# Altium schematic symbol library Passives.SchLib: 80 symbols
Pins are listed as number, name and electrical type; pins without a type are passive.

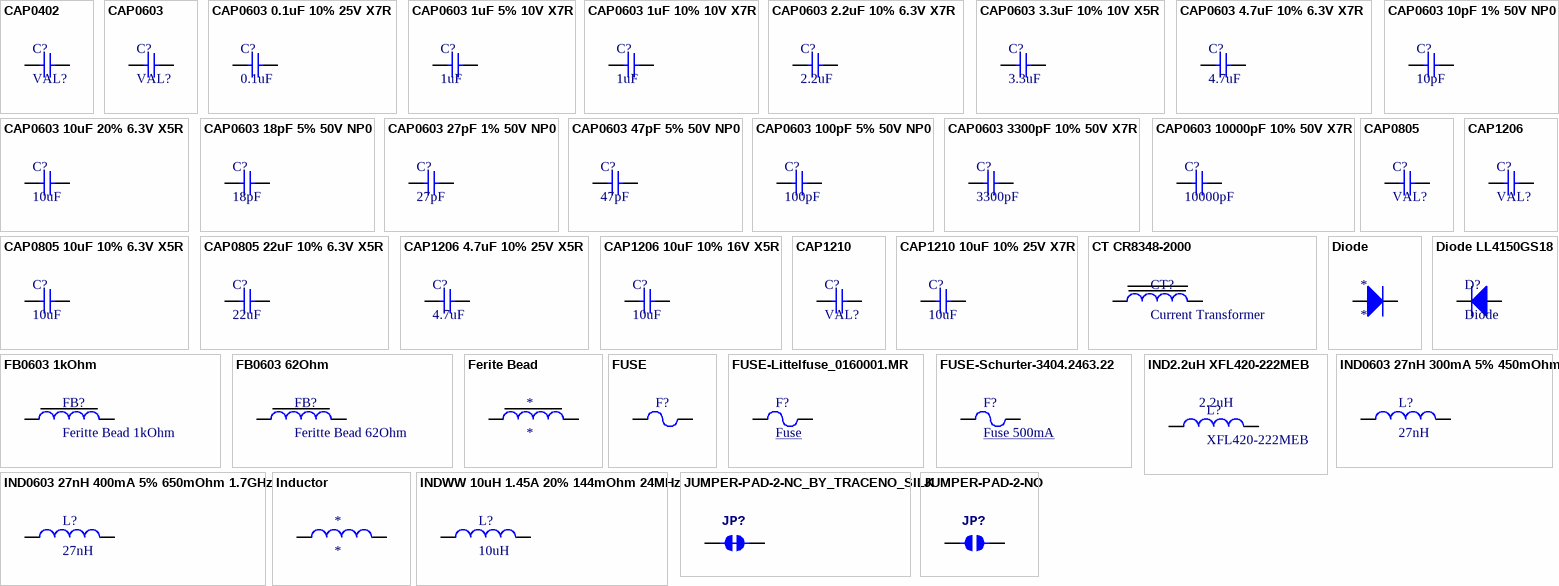
[diagram p0: symbols CAP0402 to JUMPER-PAD-2-NO]

## CAP0402
designator C?, comment VAL?
SMT 0402 Ceramic Capacitor; TempCoeff: X7R, C0G, NP0?; Tolerance: TOL?; Voltage: VOL?; Value: VAL?
footprint CAPC1005X06L - CAP0402 0.8MM TALL (Chip Capacitor, 2-Leads, Body 1.00x0.50mm, IPC High Density)
pins: 1, 2

## CAP0603
designator C?, comment VAL?
SMT 0603 Ceramic Capacitor; TempCoeff: X7R, C0G, NP0?; Tolerance: TOL?; Voltage: VOL?; Value: VAL?
footprint CAPC1608X09L - CAP603 (Chip Capacitor, 2-Leads, Body 1.60x0.80mm, IPC High Density)
pins: 1, 2

## CAP0603 0.1uF 10% 25V X7R
designator C?, comment 0.1uF
SMT 0603 Ceramic Capacitor; TempCoeff: X7R; Tolerance: 10%; Voltage: 25V; Value: 0.1uF; Supplier 1: Digi-Key; Supplier 2: Digi-Key; Supplier Part Number 1: 311-1341-1-ND; Supplier Part Number 2: 490-1524-1-ND
footprint CAPC1608X09L - CAP0603 (Chip Capacitor, 2-Leads, Body 1.60x0.80mm, IPC High Density)
pins: 1, 2

## CAP0603 1uF 5% 10V X7R
designator C?, comment 1uF
SMT 0603 Ceramic Capacitor; TempCoeff: X7R; Tolerance: 5%; Voltage: 10V; Value: 1uF; Supplier 1: Digi-Key; Supplier 2: Mouser; Supplier 3: Digi-Key; Supplier Part Number 1: 478-10074-1-ND; Supplier Part Number 2: 581-0603ZC105JAT2A; Supplier Part Number 3: 311-3484-1-ND
footprint CAPC1608X09L - CAP0603 (Chip Capacitor, 2-Leads, Body 1.60x0.80mm, IPC High Density)
pins: 1, 2

## CAP0603 1uF 10% 10V X7R
designator C?, comment 1uF
SMT 0603 Ceramic Capacitor; TempCoeff: X7R; Tolerance: 10%; Voltage: 10V; Value: 1uF; Supplier 1: Digi-Key; Supplier Part Number 1: 1276-1946-1-ND; Supplier 2: Digi-Key; Supplier Part Number 2: 399-3118-1-ND
footprint CAPC1608X09L - CAP0603 (Chip Capacitor, 2-Leads, Body 1.60x0.80mm, IPC High Density)
pins: 1, 2

## CAP0603 2.2uF 10% 6.3V X7R
designator C?, comment 2.2uF
SMT 0603 Ceramic Capacitor; TempCoeff: X7R; Tolerance: 10%; Voltage: 6.3V; Value: 2.2uF; Supplier 1: Digi-Key; Supplier 2: Digi-Key; Supplier Part Number 1: 1276-2017-1-ND; Supplier Part Number 2: 311-1795-1-ND
footprint CAPC1608X09L - CAP0603 (Chip Capacitor, 2-Leads, Body 1.60x0.80mm, IPC High Density)
pins: 1, 2

## CAP0603 3.3uF 10% 10V X5R
designator C?, comment 3.3uF
SMT 1210 Ceramic Capacitor; TempCoeff: X5R; Tolerance: 10%; Voltage: 10V; Value: 3.3uF; Supplier 1: Digi-Key; Supplier Part Number 1: 1276-1892-1-ND
footprint CAPC1608X09L - CAP0603 (Chip Capacitor, 2-Leads, Body 1.60x0.80mm, IPC High Density)
pins: 1, 2

## CAP0603 4.7uF 10% 6.3V X7R
designator C?, comment 4.7uF
SMT 0603 Ceramic Capacitor; TempCoeff: X7R; Tolerance: 10%; Voltage: 6.3V; Value: 4.7uF; Supplier 1: Digi-Key; Supplier Part Number 1: 1276-2087-1-ND
footprint CAPC1608X09L - CAP0603 (Chip Capacitor, 2-Leads, Body 1.60x0.80mm, IPC High Density)
pins: 1, 2

## CAP0603 10pF 1% 50V NP0
designator C?, comment 10pF
SMT 0603 Ceramic Capacitor; TempCoeff: NP0; Tolerance: 1%; Voltage: 50V; Value: 10pF; Supplier 1: Digi-Key; Supplier 2: Digi-Key; Supplier Part Number 1: 311-3349-1-ND; Supplier Part Number 2: 478-10285-1-ND
footprint CAPC1608X09L - CAP0603 (Chip Capacitor, 2-Leads, Body 1.60x0.80mm, IPC High Density)
pins: 1, 2

## CAP0603 10uF 20% 6.3V X5R
designator C?, comment 10uF
SMT 0603 Ceramic Capacitor; TempCoeff: X5R; Tolerance: 20%; Voltage: 6.3V; Value: 10uF; Supplier 1: Digi-Key; Supplier 2: Digi-Key; Supplier Part Number 1: 587-1256-1-ND; Supplier Part Number 2: 490-3896-1-ND
footprint CAPC1608X09L - CAP0603 (Chip Capacitor, 2-Leads, Body 1.60x0.80mm, IPC High Density)
pins: 1, 2

## CAP0603 18pF 5% 50V NP0
designator C?, comment 18pF
SMT 0603 Ceramic Capacitor; TempCoeff: NP0; Tolerance: 5%; Voltage: 50V; Supplier 1: Digi-Key; Supplier 2: Digi-Key; Supplier 3: Digi-Key; Supplier Part Number 1: 399-1052-1-ND; Supplier Part Number 2: 1276-1089-1-ND; Supplier Part Number 3: 311-1061-1-ND; Value: 18pF
footprint CAPC1608X09L - CAP0603 (Chip Capacitor, 2-Leads, Body 1.60x0.80mm, IPC High Density)
pins: 1, 2

## CAP0603 27pF 1% 50V NP0
designator C?, comment 27pF
SMT 0603 Ceramic Capacitor; TempCoeff: NP0; Tolerance: 1%; Voltage: 50V; Value: 27pF; Supplier 1: Digi-Key; Supplier Part Number 1: 1276-2245-1-ND
footprint CAPC1608X09L - CAP0603 (Chip Capacitor, 2-Leads, Body 1.60x0.80mm, IPC High Density)
pins: 1, 2

## CAP0603 47pF 5% 50V NP0
designator C?, comment 47pF
SMT 0603 Ceramic Capacitor; TempCoeff: NP0; Tolerance: 5%; Voltage: 50V; Value: 47pF; Supplier 1: Digi-Key; Supplier 2: Digi-Key; Supplier 3: Arrow; Supplier 4: Digi-Key; Supplier Part Number 1: 1276-1037-1-ND; Supplier Part Number 2: 1276-2296-1-ND; Supplier Part Number 3: CFabNzdY6X6BB7Ej2OVMNUmEE8oTDHVGVspzp79aHa0; Supplier Part Number 4: 399-1056-1-ND
footprint CAPC1608X09L - CAP0603 (Chip Capacitor, 2-Leads, Body 1.60x0.80mm, IPC High Density)
pins: 1, 2

## CAP0603 100pF 5% 50V NP0
designator C?, comment 100pF
SMT 0603 Ceramic Capacitor; TempCoeff: NP0; Tolerance: 5%; Voltage: 50V; Value: 100pF; Supplier 1: Digi-Key; Supplier 2: Digi-Key; Supplier Part Number 1: 399-1061-1-ND; Supplier Part Number 2: 490-1427-1-ND
footprint CAPC1608X09L - CAP0603 (Chip Capacitor, 2-Leads, Body 1.60x0.80mm, IPC High Density)
pins: 1, 2

## CAP0603 3300pF 10% 50V X7R
designator C?, comment 3300pF
SMT 0603 Ceramic Capacitor; TempCoeff: X7R; Tolerance: 10%; Voltage: 50V; Value: 3300pF; Supplier 1: Digi-Key; Supplier 2: Digi-Key; Supplier Part Number 1: 1276-1758-1-ND; Supplier Part Number 2: 311-1082-1-ND
footprint CAPC1608X09L - CAP0603 (Chip Capacitor, 2-Leads, Body 1.60x0.80mm, IPC High Density)
pins: 1, 2

## CAP0603 10000pF 10% 50V X7R
designator C?, comment 10000pF
SMT 0603 Ceramic Capacitor; TempCoeff: X7R; Tolerance: 10%; Voltage: 50V; Value: 10000pF; Supplier 1: Digi-Key; Supplier 2: Digi-Key; Supplier 3: Digi-Key; Supplier Part Number 1: 478-1215-1-ND; Supplier Part Number 2: 311-1080-1-ND; Supplier Part Number 3: 490-1494-1-ND
footprint CAPC1608X09L - CAP0603 (Chip Capacitor, 2-Leads, Body 1.60x0.80mm, IPC High Density)
pins: 1, 2

## CAP0805
designator C?, comment VAL?
SMT 0805 Ceramic Capacitor; TempCoeff: X7R, C0G, NP0?; Tolerance: TOL?; Voltage: VOL?; Value: VAL?
footprint CAPC2013X14L - CAP0805 1.45mm Tall (Chip Capacitor, 2-Leads, Body 2.00x1.30mm, IPC High Density)
pins: 1, 2

## CAP0805 10uF 10% 6.3V X5R
designator C?, comment 10uF
SMT 0805 Ceramic Capacitor; TempCoeff: X5R; Tolerance: 10%; Voltage: 6.3V; Value: 10uF; Supplier 1: Digi-Key; Supplier Part Number 1: 1276-6457-1-ND
footprint CAPC2013X14L - CAP0805 1.45mm Tall (Chip Capacitor, 2-Leads, Body 2.00x1.30mm, IPC High Density)
pins: 1, 2

## CAP0805 22uF 10% 6.3V X5R
designator C?, comment 22uF
SMT 0805 Ceramic Capacitor; TempCoeff: X5R; Tolerance: 10%; Voltage: 6.3V; Value: 22uF; Supplier 1: Digi-Key; Supplier Part Number 1: 1276-6687-1-ND; Supplier 2: Digi-Key; Supplier Part Number 2: 311-1860-1-ND
footprint CAPC2013X14L - CAP0805 1.45mm Tall (Chip Capacitor, 2-Leads, Body 2.00x1.30mm, IPC High Density)
pins: 1, 2

## CAP1206
designator C?, comment VAL?
SMT 1206 Ceramic Capacitor; TempCoeff: X7R, C0G, NP0?; Tolerance: TOL?; Voltage: VOL?; Value: VAL?
footprint CAPC3216X18L - CAP1206 1.8MM TALL (Chip Capacitor, 2-Leads, Body 3.20x1.60mm, IPC High Density)
pins: 1, 2

## CAP1206 4.7uF 10% 25V X5R
designator C?, comment 4.7uF
SMT 1206 Ceramic Capacitor; TempCoeff: X5R; Tolerance: 10%; Voltage: 25V; Value: 4.7uF; Supplier 1: Digi-Key; Supplier Part Number 1: 587-1336-1-ND
footprint CAPC3216X18L - CAP1206 1.8MM TALL (Chip Capacitor, 2-Leads, Body 3.20x1.60mm, IPC High Density)
pins: 1, 2

## CAP1206 10uF 10% 16V X5R
designator C?, comment 10uF
SMT 1206 Ceramic Capacitor; TempCoeff: X5R; Tolerance: 10%; Voltage: 16V; Value: 10uF; Supplier 1: Digi-Key; Supplier 2: Digi-Key; Supplier Part Number 1: 1276-1137-1-ND; Supplier Part Number 2: 490-10526-1-ND
footprint CAPC3216X18L - CAP1206 1.8MM TALL (Chip Capacitor, 2-Leads, Body 3.20x1.60mm, IPC High Density)
pins: 1, 2

## CAP1210
designator C?, comment VAL?
SMT 1210 Ceramic Capacitor; TempCoeff: X7R, C0G, NP0?; Tolerance: TOL?; Voltage: VOL?; Value: VAL?
footprint CAPC3225X28L - CAP1210 2.79mm Tall (Chip Capacitor, 2-Leads, Body 3.20x2.50mm, IPC High Density)
pins: 1, 2

## CAP1210 10uF 10% 25V X7R
designator C?, comment 10uF
SMT 1210 Ceramic Capacitor; TempCoeff: X7R; Tolerance: 10%; Voltage: 25V; Value: 10uF; Supplier 1: Digi-Key; Supplier 2: Digi-Key; Supplier Part Number 1: 587-2226-1-ND; Supplier Part Number 2: 732-7708-1-ND
footprint CAPC3225X28L - CAP1210 2.79mm Tall (Chip Capacitor, 2-Leads, Body 3.20x2.50mm, IPC High Density)
pins: 1, 2

## CT CR8348-2000
designator CT?, comment Current Transformer
TRANSF CURRENT .27" OPENING PCB 50A; url: https://www.digikey.com/product-detail/en/cr-magnetics-inc/CR8348-2000/582-1010-ND/1045166; Supplier 1: Digi-Key; Supplier Part Number 1: 582-1010-ND
footprint CT-CR8348 (TRANSF CURRENT .27" OPENING PCB CR8348-2000)
pins: 1, 2

## Diode
designator *
pins: 1 A, 2 K

## Diode LL4150GS18
designator D?, comment Diode
DIODE GEN 50V 600MA MINI MELF; Supplier 1: Digi-Key; Supplier Part Number 1: LL4150GS18GICT-ND
footprint SOD-80  MiniMELF (MELF Diode, 2-Leads, Body 3.50x1.50mm, IPC High Density)
pins: 1 K, 2 A

## FB0603 1kOhm
designator FB?, comment Feritte Bead 1kOhm
Impedance at 100MHz: 1kOhms; Supplier 1: Digi-Key; Supplier Part Number 1: 490-1015-1-ND
footprint FB1608X09L (Chip Ferrite Bead, 2-Leads, Body 1.60x0.80mm, IPC High Density)
pins: 1, 2

## FB0603 62Ohm
designator FB?, comment Feritte Bead 62Ohm
Impedance at 100MHz: 62Ohms; Supplier 1: Digi-Key; Supplier Part Number 1: 732-6702-1-ND
footprint INDC1608X10L - FL0603 (Chip Inductor, 2-Leads, Body 1.60x0.80mm, IPC High Density)
pins: 1, 2

## Ferite Bead
designator *
pins: 1, 2

## FUSE
designator F?
pins: 1, 2

## FUSE-Littelfuse_0160001.MR
designator F?, comment Fuse
FUSE BOARD MOUNT 1A 250VAC 2SMD; Supplier 1: Digi-Key; Supplier Part Number 1: F3560CT-ND; URL: https://www.digikey.com/product-detail/en/littelfuse-inc/0160001.MR/F3560CT-ND/2297756
footprint FUSE LittleFuse 160 Series (Molded Capacitor, 2-Leads, Body 10.90x4.80mm, IPC High Density)
pins: 1, 2

## FUSE-Schurter-3404.2463.22
designator F?, comment Fuse 500mA
FUSE UMK 250 FUSE WITH HOLDER 500MA F; URL: https://www.digikey.com/product-detail/en/3404.2463.22/486-3187-1-ND/5225261?curr=usd&WT.z_cid=ref_octopart_dkc_buynow&site=us; Supplier 1: Digi-Key; Supplier Part Number 1: 486-3187-1-ND
footprint FUSE M10742X40L Schurter UMK 250 Series (Molded Capacitor, 2-Leads, Body 10.70x4.20mm, IPC High Density)
pins: 1, 2

## IND2.2uH XFL420-222MEB
designator L?, comment XFL420-222MEB  value 2.2uH
Coilcraft XFL420-222MEB 2.2uH 3.1A Inductor; Supplier 1: Mouser; Supplier Part Number 1: 994-XFL4020-222MEB
footprint INDP4040X21L (Precision Wire Wound Inductor, 2-Leads, Body 4.00x4.00mm, IPC High Density)
pins: 1, 2

## IND0603 27nH 300mA 5% 450mOhm
designator L?, comment 27nH
SMT 0603 Ceramic Inductor; Tolerance: 5%; Current Rating: 300mA; DC Resistance: 450mOhm; Value: 27nH; Supplier 1: Digi-Key; Supplier Part Number 1: 587-1550-1-ND; Supplier 2: Digi-Key; Supplier Part Number 2: 535-11534-1-ND
footprint INDC1608X09L - IND0603 0.95MM TALL (Chip Inductor, 2-Leads, Body 1.60x0.80mm, IPC High Density)
pins: 1, 2

## IND0603 27nH 400mA 5% 650mOhm 1.7GHz
designator L?, comment 27nH
SMT 0603 Ceramic Inductor; Tolerance: 5%; Current Rating: 300mA; DC Resistance: 450mOhm; Self Resonant: 1.7GHz; Value: 27nH; Supplier 1: Digi-Key; Supplier Part Number 1: 732-6268-1-ND
footprint INDC1608X09L - IND0603 0.95MM TALL (Chip Inductor, 2-Leads, Body 1.60x0.80mm, IPC High Density)
pins: 1, 2

## Inductor
designator *
pins: 1, 2

## INDWW 10uH 1.45A 20% 144mOhm 24MHz
designator L?, comment 10uH
SMT Wire Wound Inductor; Tolerance: 20%; Current Rating: 1.45A; DC Resistance: 144mOhm; Self Resonant: 24MHz; Value: 10uH; Supplier 1: Digi-Key; Supplier 2: Mouser; Supplier Part Number 1: 587-2409-1-ND; Supplier Part Number 2: 963-NRS5020T100MMGJ
footprint INDP4949X20L (Precision Wire Wound Inductor, 2-Leads, Body 4.90x4.90mm, IPC High Density)
pins: 1, 2

## JUMPER-PAD-2-NC_BY_TRACENO_SILK
designator JP?  (value not drawn)
footprint PAD-JUMPER-2-NC_BY_TRACE_NO_SILK
pins: 1, 2

## JUMPER-PAD-2-NO
designator JP?  (value not drawn)
footprint PAD-JUMPER-2-NO_NO_SILK
pins: 1, 2

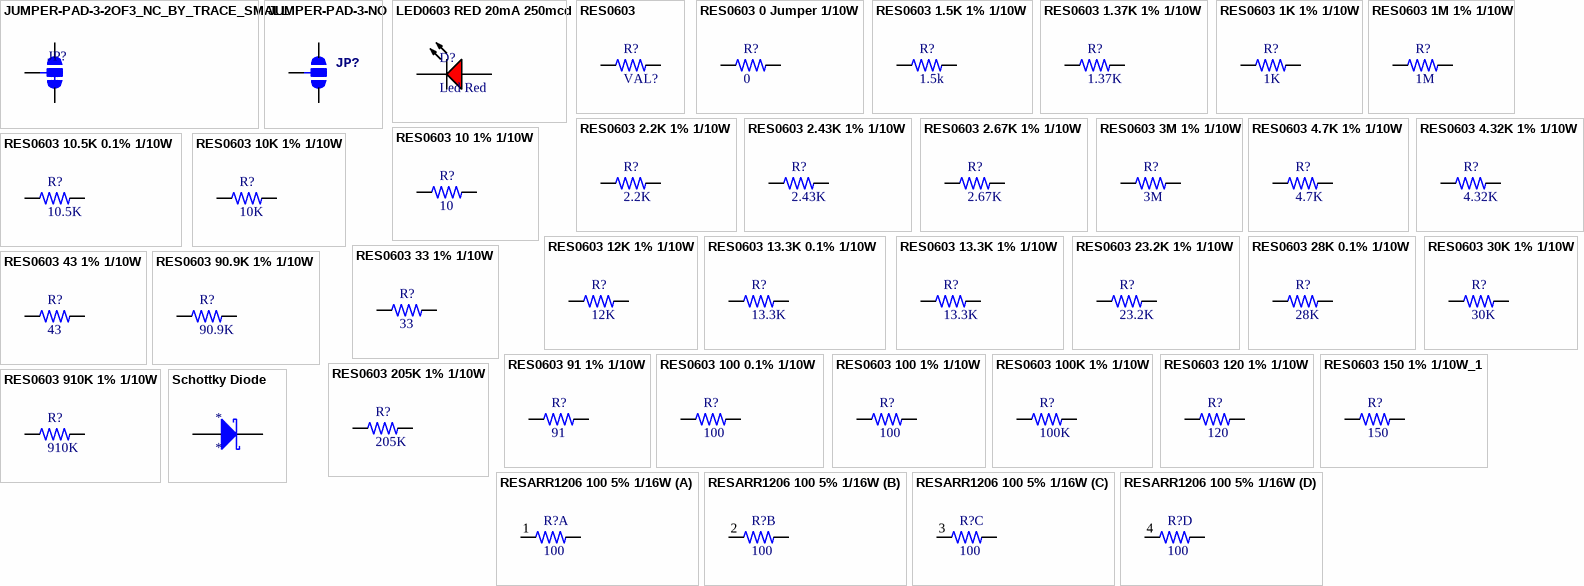
[diagram p1: symbols JUMPER-PAD-3-2OF3_NC_BY_TRACE_SMALL to Schottky Diode]

## JUMPER-PAD-3-2OF3_NC_BY_TRACE_SMALL
designator JP?  (value not drawn)
footprint PAD-JUMPER-3-2OF3_NC_BY_TRACE_YES_SILK_FULL_BOX
pins: 1, 2, 3

## JUMPER-PAD-3-NO
designator JP?  (value not drawn)
footprint PAD-JUMPER-3-NO_YES_SILK_FULL_BOX_WIDE_SPACING
pins: 1, 2, 3

## LED0603 RED 20mA 250mcd
designator D?, comment Led Red
LED RED CLEAR 0603 SMD 250 mcd; Supplier 1: Digi-Key; Supplier Part Number 1: 732-4978-1-ND
footprint LED-0603 .7MM TALL (Chip Diode, 2-Leads, Body 1.60x0.80mm, IPC High Density)
pins: A, K

## RES0603
designator R?, comment VAL?
SMT 0603 Ceramic Resistor; Value: VAL?
footprint RESC1608X06L - RES0603 (Chip Resistor, 2-Leads, Body 1.60x0.80mm, IPC High Density)
pins: 1, 2

## RES0603 0 Jumper 1/10W
designator R?, comment 0
SMT 0603 Ceramic Resistor; Power: 1/10W; Tolerance: Jumper; Value: 0; Supplier 1: Digi-Key; Supplier 2: Digi-Key; Supplier Part Number 1: 311-0.0GRCT-ND; Supplier Part Number 2: P0.0GCT-ND
footprint RESC1608X06L - RES0603 (Chip Resistor, 2-Leads, Body 1.60x0.80mm, IPC High Density)
pins: 1, 2

## RES0603 1.5K 1% 1/10W
designator R?, comment 1.5k
SMT 0603 Ceramic Resistor; Power: 1/10W; Tolerance: 1%; Value: 1.5k; Supplier 1: Digi-Key; Supplier 2: Digi-Key; Supplier Part Number 1: 311-1.50KHRCT-ND; Supplier Part Number 2: RMCF0603FT1K50CT-ND
footprint RESC1608X06L - RES0603 (Chip Resistor, 2-Leads, Body 1.60x0.80mm, IPC High Density)
pins: 1, 2

## RES0603 1.37K 1% 1/10W
designator R?, comment 1.37K
SMT 0603 Ceramic Resistor; Power: 1/10W; Tolerance: 1%; Value: 1.37K; Supplier 1: Digi-Key; Supplier 2: Digi-Key; Supplier Part Number 1: 311-1.37KHRCT-ND; Supplier Part Number 2: P1.37KHCT-ND
footprint RESC1608X06L - RES0603 (Chip Resistor, 2-Leads, Body 1.60x0.80mm, IPC High Density)
pins: 1, 2

## RES0603 1K 1% 1/10W
designator R?, comment 1K
SMT 0603 Ceramic Resistor; Power: 1/10W; Tolerance: 1%; Value: 1K; Supplier 1: Digi-Key; Supplier 2: Digi-Key; Supplier 3: Digi-Key; Supplier Part Number 1: 311-1.00KHRCT-ND; Supplier Part Number 2: P1.00KHCT-ND; Supplier Part Number 3: RMCF0603FG1K00CT-ND
footprint RESC1608X06L - RES0603 (Chip Resistor, 2-Leads, Body 1.60x0.80mm, IPC High Density)
pins: 1, 2

## RES0603 1M 1% 1/10W
designator R?, comment 1M
SMT 0603 Ceramic Resistor; Tolerance: 1%; Power: 1/10W; Supplier 1: Digi-Key; Supplier 2: Digi-Key; Supplier 3: Digi-Key; Supplier Part Number 1: 311-1.00MHRCT-ND; Supplier Part Number 2: P1.00MHCT-ND; Supplier Part Number 3: RMCF0603FT1M00CT-ND; Value: 1M
footprint RESC1608X06L - RES0603 (Chip Resistor, 2-Leads, Body 1.60x0.80mm, IPC High Density)
pins: 1, 2

## RES0603 2.2K 1% 1/10W
designator R?, comment 2.2K
SMT 0603 Ceramic Resistor; Power: 1/10W; Tolerance: 1%; Value: 2.2K; Supplier 1: Digi-Key; Supplier Part Number 1: 311-2.20KHRCT-ND
footprint RESC1608X06L - RES0603 (Chip Resistor, 2-Leads, Body 1.60x0.80mm, IPC High Density)
pins: 1, 2

## RES0603 2.43K 1% 1/10W
designator R?, comment 2.43K
SMT 0603 Ceramic Resistor; Power: 1/10W; Tolerance: 1%; Value: 2.43K; Supplier 1: Digi-Key; Supplier 2: Mouser; Supplier Part Number 1: 311-2.43KHRDKR-ND; Supplier Part Number 2: 603-RC0603FR-072K43L
footprint RESC1608X06L - RES0603 (Chip Resistor, 2-Leads, Body 1.60x0.80mm, IPC High Density)
pins: 1, 2

## RES0603 2.67K 1% 1/10W
designator R?, comment 2.67K
SMT 0603 Ceramic Resistor; Power: 1/10W; Tolerance: 1%; Value: 2.67K; Supplier 1: Digi-Key; Supplier 2: Digi-Key; Supplier Part Number 1: 311-2.67KHRDKR-ND; Supplier Part Number 2: P2.67KHCT-ND
footprint RESC1608X06L - RES0603 (Chip Resistor, 2-Leads, Body 1.60x0.80mm, IPC High Density)
pins: 1, 2

## RES0603 3M 1% 1/10W
designator R?, comment 3M
SMT 0603 Ceramic Resistor; Tolerance: 1%; Power: 1/10W; Value: 3M; Supplier 1: Digi-Key; Supplier 2: Digi-Key; Supplier 3: Digi-Key; Supplier Part Number 1: 541-3.00MHCT-ND; Supplier Part Number 2: RMCF0603FT3M00CT-ND; Supplier Part Number 3: 1276-4958-1-ND
footprint RESC1608X06L - RES0603 (Chip Resistor, 2-Leads, Body 1.60x0.80mm, IPC High Density)
pins: 1, 2

## RES0603 4.7K 1% 1/10W
designator R?, comment 4.7K
SMT 0603 Ceramic Resistor; Power: 1/10W; Tolerance: 1%; Value: 4.7K; Supplier 1: Digi-Key; Supplier 2: Digi-Key; Supplier 3: Digi-Key; Supplier Part Number 1: 311-4.70KHRCT-ND; Supplier Part Number 2: P4.70KHCT-ND; Supplier Part Number 3: RMCF0603FT4K70CT-ND
footprint RESC1608X06L - RES0603 (Chip Resistor, 2-Leads, Body 1.60x0.80mm, IPC High Density)
pins: 1, 2

## RES0603 4.32K 1% 1/10W
designator R?, comment 4.32K
SMT 0603 Ceramic Resistor; Power: 1/10W; Tolerance: 1%; Value: 4.32K; Supplier 1: Digi-Key; Supplier 2: Digi-Key; Supplier 3: Digi-Key; Supplier Part Number 1: 311-4.32KHRTR-ND; Supplier Part Number 2: P4.32KHCT-ND; Supplier Part Number 3: CRCW06034K32FKEB-ND
footprint RESC1608X06L - RES0603 (Chip Resistor, 2-Leads, Body 1.60x0.80mm, IPC High Density)
pins: 1, 2

## RES0603 10 1% 1/10W
designator R?, comment 10
SMT 0603 Ceramic Resistor; Power: 1/10W; Tolerance: 1%; Value: 10; Supplier 1: Digi-Key; Supplier 2: Digi-Key; Supplier 3: Digi-Key; Supplier Part Number 1: 311-10.0HRCT-ND; Supplier Part Number 2: RMCF0603FT10R0CT-ND; Supplier Part Number 3: CR0603-FX-10R0ELFCT-ND
footprint RESC1608X06L - RES0603 (Chip Resistor, 2-Leads, Body 1.60x0.80mm, IPC High Density)
pins: 1, 2

## RES0603 10.5K 0.1% 1/10W
designator R?, comment 10.5K
SMT 0603 Ceramic Resistor; Power: 1/10W; Tolerance: 0.1%; Value: 10.5K; Supplier 1: Digi-Key; Supplier 2: Digi-Key; Supplier Part Number 1: YAG4611CT-ND; Supplier Part Number 2: P10.5KDBCT-ND
footprint RESC1608X06L - RES0603 (Chip Resistor, 2-Leads, Body 1.60x0.80mm, IPC High Density)
pins: 1, 2

## RES0603 10K 1% 1/10W
designator R?, comment 10K
SMT 0603 Ceramic Resistor; Power: 1/10W; Tolerance: 1%; Supplier 1: Digi-Key; Supplier 2: Digi-Key; Supplier 3: Digi-Key; Supplier Part Number 1: 311-10.0KHRCT-ND; Supplier Part Number 2: RMCF0603FT10K0CT-ND; Supplier Part Number 3: P10.0KHCT-ND; Value: 10K
footprint RESC1608X06L - RES0603 (Chip Resistor, 2-Leads, Body 1.60x0.80mm, IPC High Density)
pins: 1, 2

## RES0603 12K 1% 1/10W
designator R?, comment 12K
SMT 0603 Ceramic Resistor; Power: 1/10W; Tolerance: 1%; Value: 12K; Supplier 1: Digi-Key; Supplier 2: Digi-Key; Supplier Part Number 1: 311-12.0KHRCT-ND; Supplier Part Number 2: RMCF0603FT12K0CT-ND
footprint RESC1608X06L - RES0603 (Chip Resistor, 2-Leads, Body 1.60x0.80mm, IPC High Density)
pins: 1, 2

## RES0603 13.3K 0.1% 1/10W
designator R?, comment 13.3K
SMT 0603 Ceramic Resistor; Power: 1/10W; Tolerance: 0.1%; Value: 13.3K; Supplier 1: Digi-Key; Supplier 2: Digi-Key; Supplier Part Number 1: YAG4625CT-ND; Supplier Part Number 2: P13KDBCT-ND
footprint RESC1608X06L - RES0603 (Chip Resistor, 2-Leads, Body 1.60x0.80mm, IPC High Density)
pins: 1, 2

## RES0603 13.3K 1% 1/10W
designator R?, comment 13.3K
SMT 0603 Ceramic Resistor; Power: 1/10W; Tolerance: 1%; Value: 13.3K; Supplier 1: Digi-Key; Supplier 2: Digi-Key; Supplier Part Number 1: 311-13.3KHRCT-ND; Supplier Part Number 2: P13.3KHCT-ND
footprint RESC1608X06L - RES0603 (Chip Resistor, 2-Leads, Body 1.60x0.80mm, IPC High Density)
pins: 1, 2

## RES0603 23.2K 1% 1/10W
designator R?, comment 23.2K
SMT 0603 Ceramic Resistor; Power: 1/10W; Tolerance: 1%; Value: 23.2K; Supplier 1: Digi-Key; Supplier 2: Digi-Key; Supplier 3: Digi-Key; Supplier Part Number 1: 311-23.2KHRCT-ND; Supplier Part Number 2: 541-23.2KHCT-ND; Supplier Part Number 3: RMCF0603FG23K2CT-ND
footprint RESC1608X06L - RES0603 (Chip Resistor, 2-Leads, Body 1.60x0.80mm, IPC High Density)
pins: 1, 2

## RES0603 28K 0.1% 1/10W
designator R?, comment 28K
SMT 0603 Ceramic Resistor; Power: 1/10W; Tolerance: 0.1%; Value: 28K; Supplier 1: Digi-Key; Supplier 2: Digi-Key; Supplier Part Number 1: YAG4680CT-ND; Supplier Part Number 2: P28KDBCT-ND
footprint RESC1608X06L - RES0603 (Chip Resistor, 2-Leads, Body 1.60x0.80mm, IPC High Density)
pins: 1, 2

## RES0603 30K 1% 1/10W
designator R?, comment 30K
SMT 0603 Ceramic Resistor; Power: 1/10W; Tolerance: 1%; Value: 30K; Supplier 1: Digi-Key; Supplier 2: Digi-Key; Supplier 3: Digi-Key; Supplier Part Number 1: 311-30.0KHRCT-ND; Supplier Part Number 2: YAG3593CT-ND; Supplier Part Number 3: RMCF0603FT30K0CT-ND
footprint RESC1608X06L - RES0603 (Chip Resistor, 2-Leads, Body 1.60x0.80mm, IPC High Density)
pins: 1, 2

## RES0603 33 1% 1/10W
designator R?, comment 33
SMT 0603 Ceramic Resistor; Power: 1/10W; Tolerance: 1%; Value: 33; Supplier 1: Digi-Key; Supplier 2: Digi-Key; Supplier 3: Digi-Key; Supplier Part Number 1: 311-33.0HRCT-ND; Supplier Part Number 2: RMCF0603FT33R0CT-ND; Supplier Part Number 3: P33.0HCT-ND
footprint RESC1608X06L - RES0603 (Chip Resistor, 2-Leads, Body 1.60x0.80mm, IPC High Density)
pins: 1, 2

## RES0603 43 1% 1/10W
designator R?, comment 43
SMT 0603 Ceramic Resistor; Power: 1/10W; Tolerance: 1%; Value: 43; Supplier 1: Digi-Key; Supplier Part Number 1: 311-43.0HRCT-ND; Supplier 2: Digi-Key; Supplier Part Number 2: P43.0HCT-ND
footprint RESC1608X06L - RES0603 (Chip Resistor, 2-Leads, Body 1.60x0.80mm, IPC High Density)
pins: 1, 2

## RES0603 90.9K 1% 1/10W
designator R?, comment 90.9K
SMT 0603 Ceramic Resistor; Power: 1/10W; Tolerance: 1%; Supplier 1: Digi-Key; Supplier Part Number 1: 311-90.9KHRCT-ND; Supplier 2: Digi-Key; Supplier 3: Digi-Key; Supplier 4: Digi-Key; Supplier Part Number 2: RMCF0603FT90K9CT-ND; Supplier Part Number 3: P90.9KHCT-ND; Supplier Part Number 4: RHM90.9KCFCT-ND; Value: 90.9K
footprint RESC1608X06L - RES0603 (Chip Resistor, 2-Leads, Body 1.60x0.80mm, IPC High Density)
pins: 1, 2

## RES0603 91 1% 1/10W
designator R?, comment 91
SMT 0603 Ceramic Resistor; Power: 1/10W; Tolerance: 1%; Value: 91; Supplier 1: Digi-Key; Supplier 2: Digi-Key; Supplier 3: Digi-Key; Supplier Part Number 1: 311-91.0HRCT-ND; Supplier Part Number 2: 541-91.0HCT-ND; Supplier Part Number 3: RHM91CFCT-ND
footprint RESC1608X06L - RES0603 (Chip Resistor, 2-Leads, Body 1.60x0.80mm, IPC High Density)
pins: 1, 2

## RES0603 100 0.1% 1/10W
designator R?, comment 100
SMT 0603 Ceramic Resistor; Power: 1/10W; Tolerance: 0.1%; Value: 100; Supplier 1: Digi-Key; Supplier 2: Digi-Key; Supplier Part Number 1: P100DBCT-ND; Supplier Part Number 2: YAG1497CT-ND
footprint RESC1608X06L - RES0603 (Chip Resistor, 2-Leads, Body 1.60x0.80mm, IPC High Density)
pins: 1, 2

## RES0603 100 1% 1/10W
designator R?, comment 100
SMT 0603 Ceramic Resistor; Power: 1/10W; Tolerance: 1%; Value: 100; Supplier 1: Digi-Key; Supplier 2: Digi-Key; Supplier Part Number 1: 311-100HRCT-ND; Supplier Part Number 2: P100HCT-ND
footprint RESC1608X06L - RES0603 (Chip Resistor, 2-Leads, Body 1.60x0.80mm, IPC High Density)
pins: 1, 2

## RES0603 100K 1% 1/10W
designator R?, comment 100K
SMT 0603 Ceramic Resistor; Power: 1/10W; Tolerance: 1%; Value: 100K; Supplier 1: Digi-Key; Supplier Part Number 1: 311-100KHRCT-ND
footprint RESC1608X06L - RES0603 (Chip Resistor, 2-Leads, Body 1.60x0.80mm, IPC High Density)
pins: 1, 2

## RES0603 120 1% 1/10W
designator R?, comment 120
SMT 0603 Ceramic Resistor; Value: 120; Supplier 1: Digi-Key; Supplier 2: Digi-Key; Supplier 3: Digi-Key; Supplier Part Number 1: 311-120HRCT-ND; Supplier Part Number 2: RMCF0603FT120RCT-ND; Supplier Part Number 3: YAG3563CT-ND
footprint RESC1608X06L - RES0603 (Chip Resistor, 2-Leads, Body 1.60x0.80mm, IPC High Density)
pins: 1, 2

## RES0603 150 1% 1/10W_1
designator R?, comment 150
SMT 0603 Ceramic Resistor; Supplier 1: Digi-Key; Supplier Part Number 1: 311-150HRCT-ND; Value: 150
footprint RESC1608X06L - RES0603 (Chip Resistor, 2-Leads, Body 1.60x0.80mm, IPC High Density)
pins: 1, 2

## RES0603 205K 1% 1/10W
designator R?, comment 205K
SMT 0603 Ceramic Resistor; Power: 1/10W; Tolerance: 1%; Value: 205K; Supplier 1: Digi-Key; Supplier 2: Digi-Key; Supplier 3: Digi-Key; Supplier Part Number 1: 311-205KHRCT-ND; Supplier Part Number 2: P205KHCT-ND; Supplier Part Number 3: 541-205KHCT-ND
footprint RESC1608X06L - RES0603 (Chip Resistor, 2-Leads, Body 1.60x0.80mm, IPC High Density)
pins: 1, 2

## RES0603 910K 1% 1/10W
designator R?, comment 910K
SMT 0603 Ceramic Resistor; Power: 1/10W; Tolerance: 1%; Value: 910K; Supplier 1: Digi-Key; Supplier 2: Digi-Key; Supplier 3: Digi-Key; Supplier Part Number 1: 311-910KHRCT-ND; Supplier Part Number 2: P910KHCT-ND; Supplier Part Number 3: RMCF0603FT910KCT-ND
footprint RESC1608X06L - RES0603 (Chip Resistor, 2-Leads, Body 1.60x0.80mm, IPC High Density)
pins: 1, 2

## RESARR1206 100 5% 1/16W
designator R?, comment 100
Tolerance: 5%; Power: 1/16W; Supplier 1: Digi-Key; Supplier Part Number 1: YC164J-100CT-ND; Value: 100
footprint CAC-80P319X159-8L (Chip Array, ConvexE, 8-Leads, Pitch 0.80mm,  Body 3.20x1.60mm,  IPC High Density)
part A pins: 1, 8
part B pins: 2, 7
part C pins: 3, 6
part D pins: 4, 5

## Schottky Diode
designator *
pins: 1 A, 2 K

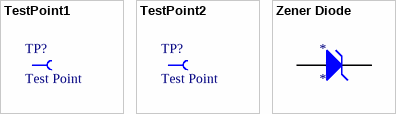
[diagram p2: symbols TestPoint1 to Zener Diode]

## TestPoint1
designator TP?, comment Test Point
Small 0.762mm Round Test Point
footprint TestPoint1 (Very Small Round Test Point)
pins: 1 P1

## TestPoint2
designator TP?, comment Test Point
Larger 1.5mm Round Test Point
footprint TestPoint2 (Larger Round Test Point)
pins: 1 P1

## Zener Diode
designator *
pins: 1 A, 2 K